# Altium footprint library SOP-4_P2.54.PcbLib: 1 footprints
Each footprint in its own frame and in the unit in brackets; x right, y up, seen from the top. Pads: shape width x height; smd on the part's side, far side on the other; paste and mask are expansions set on the pad; w line width, h text height; cw(c..) or ccw(c..) is an arc to the next point about the centre after c.
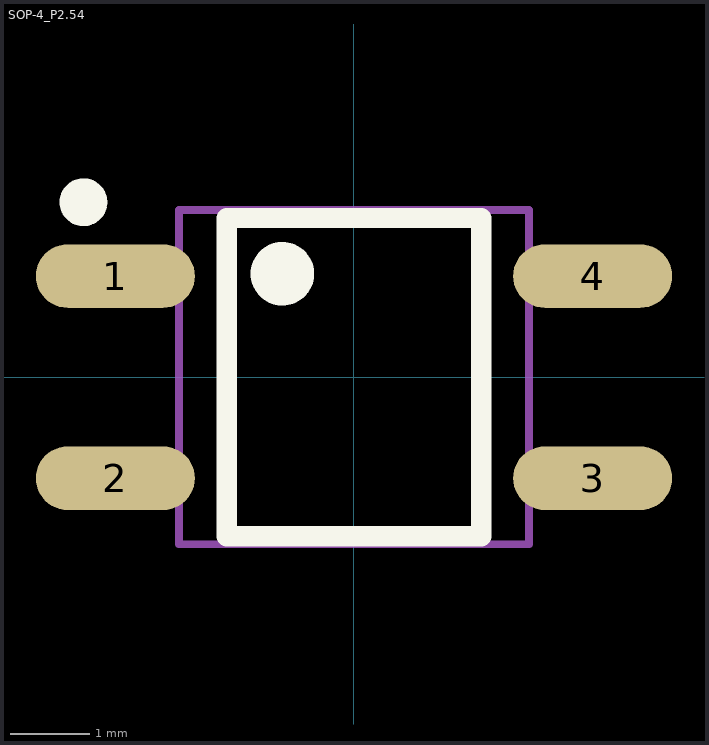
[diagram p0: the footprint, top view; thin cyan lines are the x and y axes]

## SOP-4_P2.54 [mm]
pads (4):
  oval 2x0.8 smd: 1(-3,1.27) 2(-3,-1.27) 3(3,-1.27) 4(3,1.27)
Top Overlay:
  circle w0.3: c-3.4,2.2 r0.15
  circle w0.4: c-0.9,1.3 r0.2
  lines w0.254: -1.6,-2 -1.6,2 1.6,2 1.6,-2 -1.6,-2
Mechanical 13:
  lines w0.1: -2.2,-2.1 -2.2,2.1 2.2,2.1 2.2,-2.1 -2.2,-2.1